# Altium integrated library NSC Legacy.IntLib: 687 symbols (part 13 of 17)
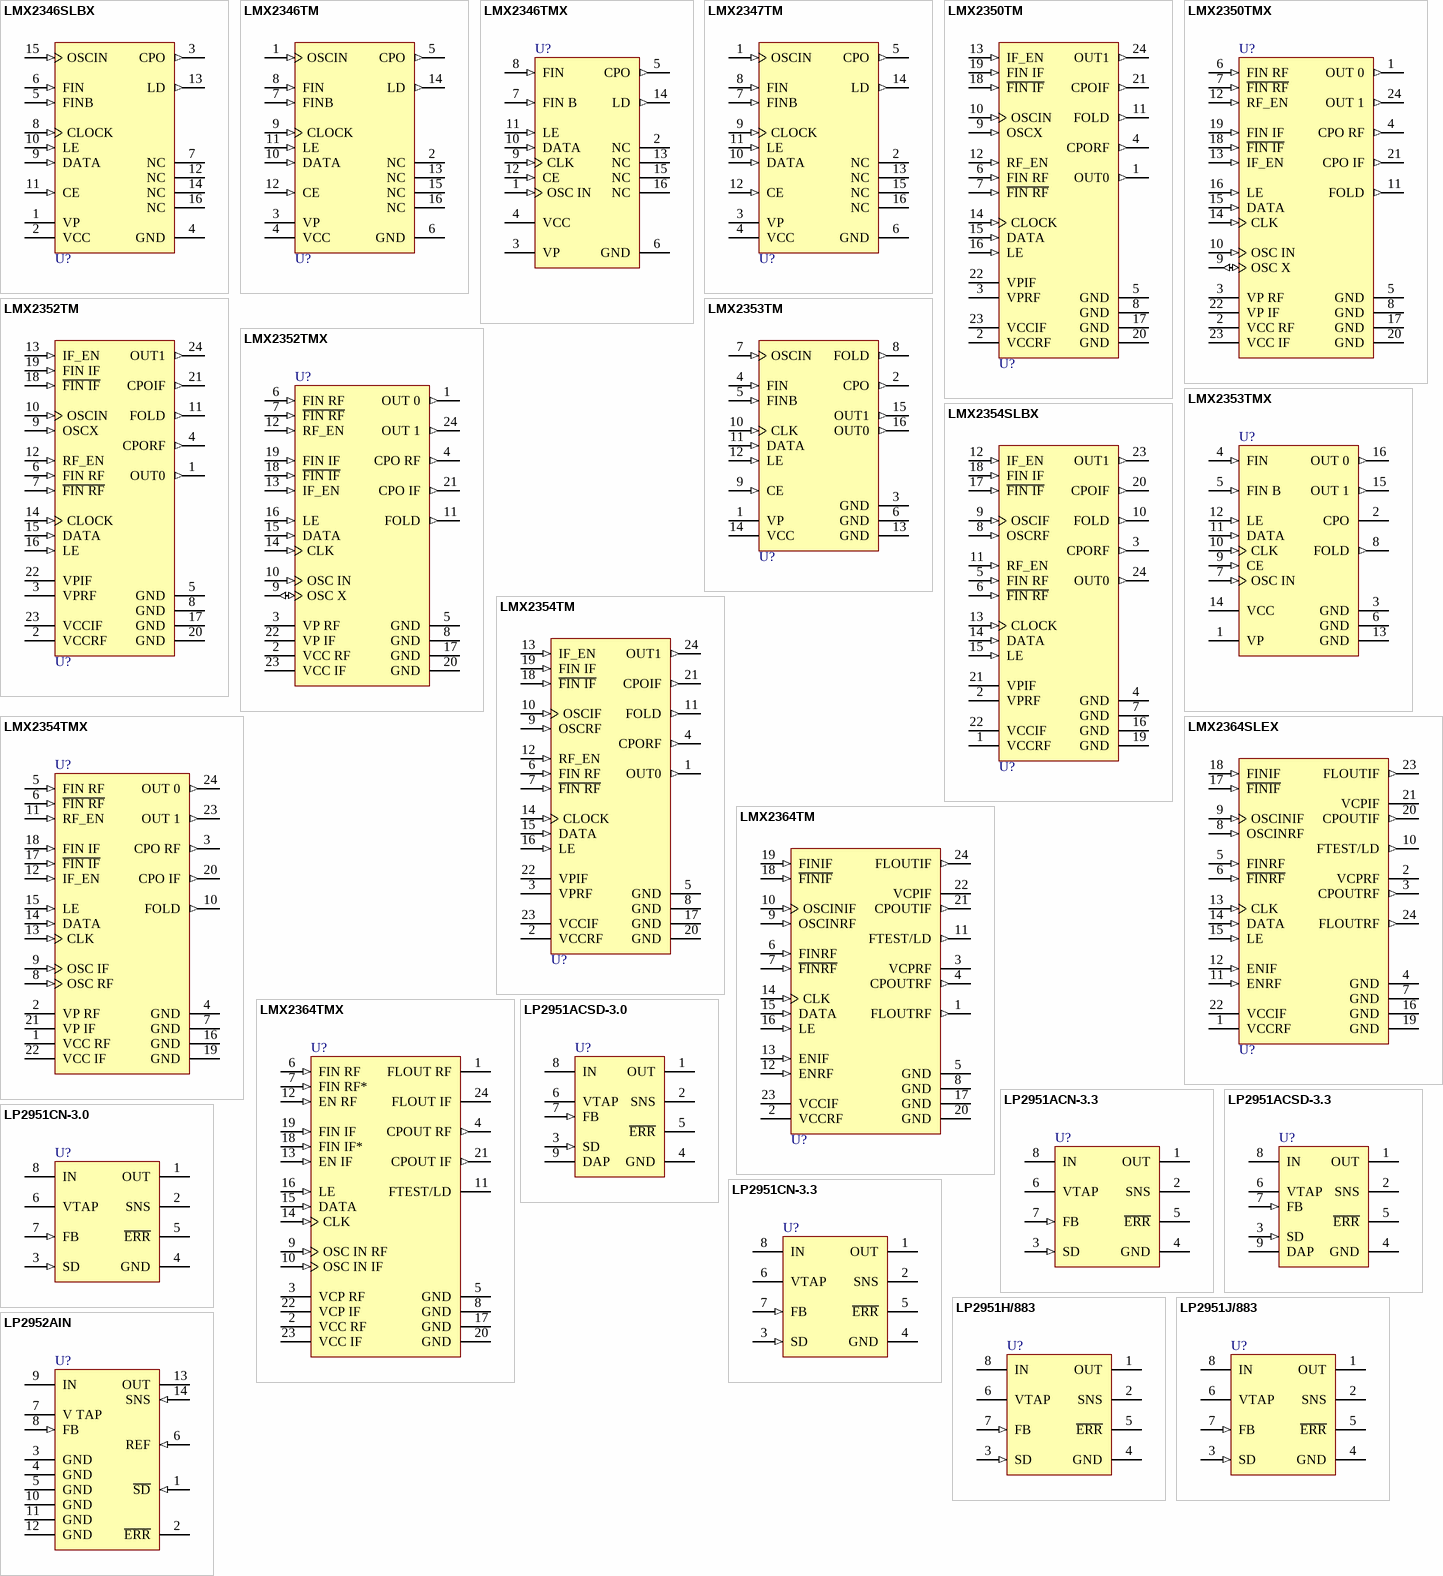
[diagram p36: symbols LMX2346SLBX to LP2952AIN]

## LMX2346TMX
designator U?
2.0 GHz PLLatinum Frequency Synthesizer for RF Personal Communications, 16-pin TSSOP; PartNumber: LMX2346TMX; Manufacturer: National Semiconductor; PackageTopMarking: NSUZXYTT*LMX2346*TMDD; CompType: Analog IC; Published: 4-Dec-2008; DatasheetVersion: Jun-2004; PackageVersion: revD, Jun-2003; PackageReference: MTC16; Publisher: Altium Limited; PackageDescription: Molded TSSOP, Jedec, 5 x 4.4 x 0.9mm Body, 16 Lead, 0.65mm Pitch; PinCount: 16; Code_JEDEC: MO-153-AB; ComponentLink1Description: LMX2346 Datasheet; ComponentLink1URL: http://www.national.com/ds/LM/LMX2346.pdf; ComponentLink2Description: LMX2346 Web Page; ComponentLink2URL: http://www.national.com/pf/LM/LMX2346.html; ComponentLink3Description: MTC16 package page; ComponentLink3URL: http://www.national.com/packaging/folders/mtc16.html
footprint MTC16_N (TSOP, 16-Leads, Body 5x4.4mm, Pitch 0.65mm, IPC Medium Density)
footprint MTC16_L (TSOP, 16-Leads, Body 5x4.4mm, Pitch 0.65mm, IPC High Density)
footprint MTC16_M (TSOP, 16-Leads, Body 5x4.4mm, Pitch 0.65mm, IPC Low Density)
pins: 1 OSC IN (in), 2 NC, 3 VP (power), 4 VCC (power), 5 CPO (out), 6 GND (power), 7 FIN B (in), 8 FIN (in), 9 CLK (in), 10 DATA (in), 11 LE (in), 12 CE (in), 13 NC, 14 LD (out), 15 NC, 16 NC

## LMX2347TM
designator U?
2.5 GHz PLLatinum Frequency Synthesizer for RF Personal Communications, 16-pin TSSOP; PartNumber: LMX2347TM; Manufacturer: National Semiconductor; PackageTopMarking: NSUZXYTT*LMX2347*TMDD; PowerWise: N; CompType: Interface IC; Published: 4-Dec-2008; DatasheetVersion: Jun-2004; PackageVersion: revD, Jun-2003; PackageReference: MTC16; Publisher: Altium Limited; PackageDescription: Molded TSSOP, Jedec, 5 x 4.4 x 0.9mm Body, 16 Lead, 0.65mm Pitch; RoHS: Y; PinCount: 16; Code_JEDEC: MO-153-AB; ComponentLink1Description: LMX2347 Datasheet; ComponentLink1URL: http://www.national.com/ds/LM/LMX2347.pdf; ComponentLink2Description: LMX2347 Web Page; ComponentLink2URL: http://www.national.com/pf/LM/LMX2347.html; ComponentLink3Description: MTC16 Package Page; ComponentLink3URL: http://www.national.com/packaging/folders/mtc16.html
footprint MTC16_N (TSOP, 16-Leads, Body 5x4.4mm, Pitch 0.65mm, IPC Medium Density)
footprint MTC16_L (TSOP, 16-Leads, Body 5x4.4mm, Pitch 0.65mm, IPC High Density)
footprint MTC16_M (TSOP, 16-Leads, Body 5x4.4mm, Pitch 0.65mm, IPC Low Density)
pins: 1 OSCIN (in), 2 NC, 3 VP (power), 4 VCC (power), 5 CPO (out), 6 GND (power), 7 FINB (in), 8 FIN (in), 9 CLOCK (in), 10 DATA (in), 11 LE (in), 12 CE (in), 13 NC, 14 LD (out), 15 NC, 16 NC

## LMX2350TM
designator U?
2.5 GHz/550 MHz PLLatinum Fractional N RF / Integer N IF Dual Low Power Frequency Synthesizer, 24-pin TSSOP; PartNumber: LMX2350TM; Manufacturer: National Semiconductor; PackageTopMarking: NSUZXYTT*LMX2350*TMDD; CompType: Interface IC; Published: 4-Dec-2008; DatasheetVersion: Mar-2001; PackageVersion: revE, Mar-2003; PackageReference: MTC24; Publisher: Altium Limited; PackageDescription: Molded TSSOP, Jedec, 7.8 x 4.4 x 0.9mm Body, 24 Lead, 0.65mm Pitch; RoHS: Y; PinCount: 24; PowerWise: N; Code_JEDEC: MO-153-AD; ComponentLink1Description: LMX2350 Datasheet; ComponentLink1URL: http://www.national.com/ds/LM/LMX2350.pdf; ComponentLink2Description: LMX2350 Web Page; ComponentLink2URL: http://www.national.com/pf/LM/LMX2350.html; ComponentLink3Description: MTC24 Package Page; ComponentLink3URL: http://www.national.com/packaging/folders/mtc24.html
footprint MTC24_N (TSOP, 24-Leads, Body 7.8x4.4mm, Pitch 0.65mm, IPC Medium Density)
footprint MTC24_L (TSOP, 24-Leads, Body 7.8x4.4mm, Pitch 0.65mm, IPC High Density)
footprint MTC24_M (TSOP, 24-Leads, Body 7.8x4.4mm, Pitch 0.65mm, IPC Low Density)
pins: 1 OUT0 (out), 2 VCCRF (power), 3 VPRF (power), 4 CPORF (out), 5 GND (power), 6 FIN RF (in), 7 ~{FIN RF} (in), 8 GND (power), 9 OSCX (in), 10 OSCIN (in), 11 FOLD (out), 12 RF_EN (in), 13 IF_EN (in), 14 CLOCK (in), 15 DATA (in), 16 LE (in), 17 GND (power), 18 ~{FIN IF} (in), 19 FIN IF (in), 20 GND (power), 21 CPOIF (out), 22 VPIF (power), 23 VCCIF (power), 24 OUT1 (out)

## LMX2350TMX
designator U?
2.5 GHz/550 MHz PLLatinum Fractional N RF / Integer N IF Dual Low Power Frequency Synthesizer, 24-pin TSSOP; PartNumber: LMX2350TMX; Manufacturer: National Semiconductor; PackageTopMarking: NSUZXYTT*LMX2350*TMDD; CompType: Analog IC; Published: 4-Dec-2008; DatasheetVersion: Mar-2001; PackageVersion: revE, Mar-2003; PackageReference: MTC24; Publisher: Altium Limited; PackageDescription: Molded TSSOP, Jedec, 7.8 x 4.4 x 0.9mm Body, 24 Lead, 0.65mm Pitch; PinCount: 24; Code_JEDEC: MO-153-AD; ComponentLink1Description: LMX2350 Datasheet; ComponentLink1URL: http://www.national.com/ds/LM/LMX2350.pdf; ComponentLink2Description: LMX2350 Web Page; ComponentLink2URL: http://www.national.com/pf/LM/LMX2350.html; ComponentLink3Description: MTC24 package page; ComponentLink3URL: http://www.national.com/packaging/folders/mtc24.html
footprint MTC24_N (TSOP, 24-Leads, Body 7.8x4.4mm, Pitch 0.65mm, IPC Medium Density)
footprint MTC24_L (TSOP, 24-Leads, Body 7.8x4.4mm, Pitch 0.65mm, IPC High Density)
footprint MTC24_M (TSOP, 24-Leads, Body 7.8x4.4mm, Pitch 0.65mm, IPC Low Density)
pins: 1 OUT 0 (out), 2 VCC RF (power), 3 VP RF (power), 4 CPO RF (out), 5 GND (power), 6 FIN RF (in), 7 ~{FIN RF} (in), 8 GND (power), 9 OSC X (io), 10 OSC IN (in), 11 FOLD (out), 12 RF_EN (in), 13 IF_EN (in), 14 CLK (in), 15 DATA (in), 16 LE (in), 17 GND (power), 18 ~{FIN IF} (in), 19 FIN IF (in), 20 GND (power), 21 CPO IF (out), 22 VP IF (power), 23 VCC IF (power), 24 OUT 1 (out)

## LMX2352TM
designator U?
1.2 GHz/550 MHz PLLatinum Fractional N RF / Integer N IF Dual Low Power Frequency Synthesizer, 24-pin TSSOP; PartNumber: LMX2352TM; Manufacturer: National Semiconductor; PackageTopMarking: NSUZXYTT*LMX2352*TMDD; CompType: Interface IC; Published: 4-Dec-2008; DatasheetVersion: Mar-2001; PackageVersion: revE, Mar-2003; PackageReference: MTC24; Publisher: Altium Limited; PackageDescription: Molded TSSOP, Jedec, 7.8 x 4.4 x 0.9mm Body, 24 Lead, 0.65mm Pitch; RoHS: O; PinCount: 24; PowerWise: N; Code_JEDEC: MO-153-AD; ComponentLink1Description: LMX2352 Datasheet; ComponentLink1URL: http://www.national.com/ds/LM/LMX2352.pdf; ComponentLink2Description: LMX2352 Web Page; ComponentLink2URL: http://www.national.com/pf/LM/LMX2352.html; ComponentLink3Description: MTC24 Package Page; ComponentLink3URL: http://www.national.com/packaging/folders/mtc24.html
footprint MTC24_N (TSOP, 24-Leads, Body 7.8x4.4mm, Pitch 0.65mm, IPC Medium Density)
footprint MTC24_L (TSOP, 24-Leads, Body 7.8x4.4mm, Pitch 0.65mm, IPC High Density)
footprint MTC24_M (TSOP, 24-Leads, Body 7.8x4.4mm, Pitch 0.65mm, IPC Low Density)
pins: 1 OUT0 (out), 2 VCCRF (power), 3 VPRF (power), 4 CPORF (out), 5 GND (power), 6 FIN RF (in), 7 ~{FIN RF} (in), 8 GND (power), 9 OSCX (in), 10 OSCIN (in), 11 FOLD (out), 12 RF_EN (in), 13 IF_EN (in), 14 CLOCK (in), 15 DATA (in), 16 LE (in), 17 GND (power), 18 ~{FIN IF} (in), 19 FIN IF (in), 20 GND (power), 21 CPOIF (out), 22 VPIF (power), 23 VCCIF (power), 24 OUT1 (out)

## LMX2352TMX
designator U?
1.2 GHz/550 MHz PLLatinum Fractional N RF / Integer N IF Dual Low Power Frequency Synthesizer, 24-pin TSSOP; PartNumber: LMX2352TMX; Manufacturer: National Semiconductor; PackageTopMarking: NSUZXYTT*LMX2352*TMDD; CompType: Analog IC; Published: 4-Dec-2008; DatasheetVersion: Mar-2001; PackageVersion: revE, Mar-2003; PackageReference: MTC24; Publisher: Altium Limited; PackageDescription: Molded TSSOP, Jedec, 7.8 x 4.4 x 0.9mm Body, 24 Lead, 0.65mm Pitch; PinCount: 24; Code_JEDEC: MO-153-AD; ComponentLink1Description: LMX2352 Datasheet; ComponentLink1URL: http://www.national.com/ds/LM/LMX2352.pdf; ComponentLink2Description: LMX2352 Web Page; ComponentLink2URL: http://www.national.com/pf/LM/LMX2352.html; ComponentLink3Description: MTC24 package page; ComponentLink3URL: http://www.national.com/packaging/folders/mtc24.html
footprint MTC24_N (TSOP, 24-Leads, Body 7.8x4.4mm, Pitch 0.65mm, IPC Medium Density)
footprint MTC24_L (TSOP, 24-Leads, Body 7.8x4.4mm, Pitch 0.65mm, IPC High Density)
footprint MTC24_M (TSOP, 24-Leads, Body 7.8x4.4mm, Pitch 0.65mm, IPC Low Density)
pins: 1 OUT 0 (out), 2 VCC RF (power), 3 VP RF (power), 4 CPO RF (out), 5 GND (power), 6 FIN RF (in), 7 ~{FIN RF} (in), 8 GND (power), 9 OSC X (io), 10 OSC IN (in), 11 FOLD (out), 12 RF_EN (in), 13 IF_EN (in), 14 CLK (in), 15 DATA (in), 16 LE (in), 17 GND (power), 18 ~{FIN IF} (in), 19 FIN IF (in), 20 GND (power), 21 CPO IF (out), 22 VP IF (power), 23 VCC IF (power), 24 OUT 1 (out)

## LMX2353TM
designator U?
PLLatinum Fractional N Single 2.5 GHz Frequency Synthesizer, 16-pin TSSOP; PartNumber: LMX2353TM; Manufacturer: National Semiconductor; PackageTopMarking: NSUZXYTT*LMX2353*TMDD; CompType: Interface IC; Published: 4-Dec-2008; DatasheetVersion: Jan-2001; PackageVersion: revD, Jun-2003; PackageReference: MTC16; Publisher: Altium Limited; PackageDescription: Molded TSSOP, Jedec, 5 x 4.4 x 0.9mm Body, 16 Lead, 0.65mm Pitch; Supplier 1: Farnell; Supplier Part Number 1: 4125253; RoHS: Y; PinCount: 16; Code_JEDEC: MO-153-AB; ComponentLink1Description: LMX2353 Datasheet; ComponentLink1URL: http://www.national.com/ds/LM/LMX2353.pdf; ComponentLink2Description: LMX2353 Web Page; ComponentLink2URL: http://www.national.com/pf/LM/LMX2353.html; ComponentLink3Description: MTC16 Package Page; ComponentLink3URL: http://www.national.com/packaging/folders/mtc16.html
footprint MTC16_N (TSOP, 16-Leads, Body 5x4.4mm, Pitch 0.65mm, IPC Medium Density)
footprint MTC16_L (TSOP, 16-Leads, Body 5x4.4mm, Pitch 0.65mm, IPC High Density)
footprint MTC16_M (TSOP, 16-Leads, Body 5x4.4mm, Pitch 0.65mm, IPC Low Density)
pins: 1 VP (power), 2 CPO (out), 3 GND (power), 4 FIN (in), 5 FINB (in), 6 GND (power), 7 OSCIN (in), 8 FOLD (out), 9 CE (in), 10 CLK (in), 11 DATA (in), 12 LE (in), 13 GND (power), 14 VCC (power), 15 OUT1 (out), 16 OUT0 (out)

## LMX2353TMX
designator U?
PLLatinum Fractional N Single 2.5 GHz Low Power Frequency Synthesizer, 16-pin TSSOP; PartNumber: LMX2353TMX; Manufacturer: National Semiconductor; PackageTopMarking: NSUZXYTT*LMX2353*TMDD; CompType: Analog IC; Published: 4-Dec-2008; DatasheetVersion: Jan-2001; PackageVersion: revD, Jun-2003; PackageReference: MTC16; Publisher: Altium Limited; PackageDescription: Molded TSSOP, Jedec, 5 x 4.4 x 0.9mm Body, 16 Lead, 0.65mm Pitch; PinCount: 16; Code_JEDEC: MO-153-AB; ComponentLink1Description: LMX2353 Datasheet; ComponentLink1URL: http://www.national.com/ds/LM/LMX2353.pdf; ComponentLink2Description: LMX2353 Web Page; ComponentLink2URL: http://www.national.com/pf/LM/LMX2353.html; ComponentLink3Description: MTC16 package page; ComponentLink3URL: http://www.national.com/packaging/folders/mtc16.html
footprint MTC16_N (TSOP, 16-Leads, Body 5x4.4mm, Pitch 0.65mm, IPC Medium Density)
footprint MTC16_L (TSOP, 16-Leads, Body 5x4.4mm, Pitch 0.65mm, IPC High Density)
footprint MTC16_M (TSOP, 16-Leads, Body 5x4.4mm, Pitch 0.65mm, IPC Low Density)
pins: 1 VP (power), 2 CPO (hiz), 3 GND (power), 4 FIN (in), 5 FIN B (in), 6 GND (power), 7 OSC IN (in), 8 FOLD (out), 9 CE (in), 10 CLK (in), 11 DATA (in), 12 LE (in), 13 GND (power), 14 VCC (power), 15 OUT 1 (out), 16 OUT 0 (out)

## LMX2354SLBX
designator U?
2.5 GHz/550 MHz PLLatinum Fractional N RF / Integer N IF Dual Low Power Frequency Synthesizer, 24-pin CSP; PartNumber: LMX2354SLBX; Manufacturer: National Semiconductor; PackageTopMarking: NSUZXYTT*LMX2354*SLBDD; CompType: Interface IC; Published: 4-Dec-2008; DatasheetVersion: Aug-2001; PackageVersion: revC, Oct-1998; PackageReference: SLB24A; Publisher: Altium Limited; PackageDescription: CSP, Plastic, Laminated, 3.5 x 4.5 x 1.0mm Body, 24 Lead, 0.5mm Pitch; RoHS: O; PinCount: 24; PowerWise: N; ComponentLink1Description: LMX2354 Datasheet; ComponentLink1URL: http://www.national.com/ds/LM/LMX2354.pdf; ComponentLink2Description: LMX2354 Web Page; ComponentLink2URL: http://www.national.com/pf/LM/LMX2354.html; ComponentLink3Description: SLB24A Package Page; ComponentLink3URL: http://www.national.com/packaging/folders/slb24a.html
footprint SLB24A (PQFN, 24-Leads (9x3 pads), Body 3.5x4.5mm, Pitch 0.5mm, NSC Recommended)
pins: 1 VCCRF (power), 2 VPRF (power), 3 CPORF (out), 4 GND (power), 5 FIN RF (in), 6 ~{FIN RF} (in), 7 GND (power), 8 OSCRF (in), 9 OSCIF (in), 10 FOLD (out), 11 RF_EN (in), 12 IF_EN (in), 13 CLOCK (in), 14 DATA (in), 15 LE (in), 16 GND (power), 17 ~{FIN IF} (in), 18 FIN IF (in), 19 GND (power), 20 CPOIF (out), 21 VPIF (power), 22 VCCIF (power), 23 OUT1 (out), 24 OUT0 (out)

## LMX2354TM
designator U?
2.5 GHz/550 MHz PLLatinum Fractional N RF / Integer N IF Dual Low Power Frequency Synthesizer, 24-pin TSSOP; PartNumber: LMX2354TM; Manufacturer: National Semiconductor; PackageTopMarking: NSUZXYTT*LMX2354*TMDD; CompType: Interface IC; Published: 4-Dec-2008; DatasheetVersion: Aug-2001; PackageVersion: revE, Mar-2003; PackageReference: MTC24; Publisher: Altium Limited; PackageDescription: Molded TSSOP, Jedec, 7.8 x 4.4 x 0.9mm Body, 24 Lead, 0.65mm Pitch; Supplier 1: Farnell; Supplier Part Number 1: 9779175; RoHS: O; PinCount: 24; PowerWise: N; Code_JEDEC: MO-153-AD; ComponentLink1Description: LMX2354 Datasheet; ComponentLink1URL: http://www.national.com/ds/LM/LMX2354.pdf; ComponentLink2Description: LMX2354 Web Page; ComponentLink2URL: http://www.national.com/pf/LM/LMX2354.html; ComponentLink3Description: MTC24 Package Page; ComponentLink3URL: http://www.national.com/packaging/folders/mtc24.html
footprint MTC24_N (TSOP, 24-Leads, Body 7.8x4.4mm, Pitch 0.65mm, IPC Medium Density)
footprint MTC24_L (TSOP, 24-Leads, Body 7.8x4.4mm, Pitch 0.65mm, IPC High Density)
footprint MTC24_M (TSOP, 24-Leads, Body 7.8x4.4mm, Pitch 0.65mm, IPC Low Density)
pins: 1 OUT0 (out), 2 VCCRF (power), 3 VPRF (power), 4 CPORF (out), 5 GND (power), 6 FIN RF (in), 7 ~{FIN RF} (in), 8 GND (power), 9 OSCRF (in), 10 OSCIF (in), 11 FOLD (out), 12 RF_EN (in), 13 IF_EN (in), 14 CLOCK (in), 15 DATA (in), 16 LE (in), 17 GND (power), 18 ~{FIN IF} (in), 19 FIN IF (in), 20 GND (power), 21 CPOIF (out), 22 VPIF (power), 23 VCCIF (power), 24 OUT1 (out)

## LMX2354TMX
designator U?
2.5 GHz/550 MHz PLLatinum Fractional N RF/ Integer N IF Dual Low Power Frequency Synthesizer, 24-pin TSSOP; PartNumber: LMX2354TMX; Manufacturer: National Semiconductor; PackageTopMarking: NSUZXYTT*LMX2354*TMDD; CompType: Analog IC; Published: 4-Dec-2008; DatasheetVersion: Aug-2001; PackageVersion: revE, Mar-2003; PackageReference: MTC24; Publisher: Altium Limited; PackageDescription: Molded TSSOP, Jedec, 7.8 x 4.4 x 0.9mm Body, 24 Lead, 0.65mm Pitch; PinCount: 24; Code_JEDEC: MO-153-AD; ComponentLink1Description: LMX2354 Datasheet; ComponentLink1URL: http://www.national.com/ds/LM/LMX2354.pdf; ComponentLink2Description: LMX2354 Web Page; ComponentLink2URL: http://www.national.com/pf/LM/LMX2354.html; ComponentLink3Description: MTC24 package page; ComponentLink3URL: http://www.national.com/packaging/folders/mtc24.html
footprint MTC24_N (TSOP, 24-Leads, Body 7.8x4.4mm, Pitch 0.65mm, IPC Medium Density)
footprint MTC24_L (TSOP, 24-Leads, Body 7.8x4.4mm, Pitch 0.65mm, IPC High Density)
footprint MTC24_M (TSOP, 24-Leads, Body 7.8x4.4mm, Pitch 0.65mm, IPC Low Density)
pins: 1 VCC RF (power), 2 VP RF (power), 3 CPO RF (out), 4 GND (power), 5 FIN RF (in), 6 ~{FIN RF} (in), 7 GND (power), 8 OSC RF (in), 9 OSC IF (in), 10 FOLD (out), 11 RF_EN (in), 12 IF_EN (in), 13 CLK (in), 14 DATA (in), 15 LE (in), 16 GND (power), 17 ~{FIN IF} (in), 18 FIN IF (in), 19 GND (power), 20 CPO IF (out), 21 VP IF (power), 22 VCC IF (power), 23 OUT 1 (out), 24 OUT 0 (out)

## LMX2364SLEX
designator U?
2.6 GHz Fractional RF Frequency Synthesizer with 850 MHz Integer-N IF Frequency Synthesizer, 24-pin Laminate UCSP; PartNumber: LMX2364SLEX; Manufacturer: National Semiconductor; PackageTopMarking: NSXYTT*X2364*SLE; PowerWise: N; CompType: Interface IC; Published: 4-Dec-2008; DatasheetVersion: Jul-2003; PackageVersion: revA, Jun-2001; PackageReference: SLE24A; Publisher: Altium Limited; PackageDescription: Ultra TCSP, Plastic, Laminated, 3.5 x 4.5 x 0.6mm Body, 24 Lead, .5mm Pitch; RoHS: Y; PinCount: 24; ComponentLink1Description: LMX2364 Datasheet; ComponentLink1URL: http://www.national.com/ds/LM/LMX2364.pdf; ComponentLink2Description: LMX2364 Web Page; ComponentLink2URL: http://www.national.com/pf/LM/LMX2364.html; ComponentLink3Description: SLE24A Package Page; ComponentLink3URL: http://www.national.com/packaging/folders/sle24a.html
footprint SLE24A (PQFN, 24-Leads (9x3 pads), Body 3.5x4.5mm, Pitch 0.5mm, NSC Recommended)
pins: 1 VCCRF (power), 2 VCPRF (power), 3 CPOUTRF (out), 4 GND (power), 5 FINRF (in), 6 ~{FINRF} (in), 7 GND (power), 8 OSCINRF (in), 9 OSCINIF (in), 10 FTEST/LD (out), 11 ENRF (in), 12 ENIF (in), 13 CLK (in), 14 DATA (in), 15 LE (in), 16 GND (power), 17 ~{FINIF} (in), 18 FINIF (in), 19 GND (power), 20 CPOUTIF (out), 21 VCPIF (power), 22 VCCIF (power), 23 FLOUTIF (out), 24 FLOUTRF (out)

## LMX2364TM
designator U?
2.6 GHz Fractional RF Frequency Synthesizer with 850 MHz Integer-N IF Frequency Synthesizer, 24-pin TSSOP; PartNumber: LMX2364TM; Manufacturer: National Semiconductor; PackageTopMarking: NSUZXYTT*LMX2364TM; PowerWise: N; CompType: Interface IC; Published: 4-Dec-2008; DatasheetVersion: Jul-2003; PackageVersion: revE, Mar-2003; PackageReference: MTC24; Publisher: Altium Limited; PackageDescription: Molded TSSOP, Jedec, 7.8 x 4.4 x 0.9mm Body, 24 Lead, 0.65mm Pitch; RoHS: Y; PinCount: 24; Code_JEDEC: MO-153-AD; ComponentLink1Description: LMX2364 Datasheet; ComponentLink1URL: http://www.national.com/ds/LM/LMX2364.pdf; ComponentLink2Description: LMX2364 Web Page; ComponentLink2URL: http://www.national.com/pf/LM/LMX2364.html; ComponentLink3Description: MTC24 Package Page; ComponentLink3URL: http://www.national.com/packaging/folders/mtc24.html
footprint MTC24_N (TSOP, 24-Leads, Body 7.8x4.4mm, Pitch 0.65mm, IPC Medium Density)
footprint MTC24_L (TSOP, 24-Leads, Body 7.8x4.4mm, Pitch 0.65mm, IPC High Density)
footprint MTC24_M (TSOP, 24-Leads, Body 7.8x4.4mm, Pitch 0.65mm, IPC Low Density)
pins: 1 FLOUTRF (out), 2 VCCRF (power), 3 VCPRF (power), 4 CPOUTRF (out), 5 GND (power), 6 FINRF (in), 7 ~{FINRF} (in), 8 GND (power), 9 OSCINRF (in), 10 OSCINIF (in), 11 FTEST/LD (out), 12 ENRF (in), 13 ENIF (in), 14 CLK (in), 15 DATA (in), 16 LE (in), 17 GND (power), 18 ~{FINIF} (in), 19 FINIF (in), 20 GND (power), 21 CPOUTIF (out), 22 VCPIF (power), 23 VCCIF (power), 24 FLOUTIF (out)

## LMX2364TMX
designator U?
2.6 GHz PLLatinum Fractional RF Frequency Synthesizer with 850 MHz Integer IF Frequency Synthesizer, 24-pin TSSOP; PartNumber: LMX2364TMX; Manufacturer: National Semiconductor; PackageTopMarking: NSUZXYTT*LMX2364TM; CompType: Analog IC; Published: 4-Dec-2008; DatasheetVersion: Jul-2003; PackageVersion: revE, Mar-2003; PackageReference: MTC24; Publisher: Altium Limited; PackageDescription: Molded TSSOP, Jedec, 7.8 x 4.4 x 0.9mm Body, 24 Lead, 0.65mm Pitch; PinCount: 24; Code_JEDEC: MO-153-AD; ComponentLink1Description: LMX2364 Datasheet; ComponentLink1URL: http://www.national.com/ds/LM/LMX2364.pdf; ComponentLink2Description: LMX2364 Web Page; ComponentLink2URL: http://www.national.com/pf/LM/LMX2364.html; ComponentLink3Description: MTC24 package page; ComponentLink3URL: http://www.national.com/packaging/folders/mtc24.html
footprint MTC24_N (TSOP, 24-Leads, Body 7.8x4.4mm, Pitch 0.65mm, IPC Medium Density)
footprint MTC24_L (TSOP, 24-Leads, Body 7.8x4.4mm, Pitch 0.65mm, IPC High Density)
footprint MTC24_M (TSOP, 24-Leads, Body 7.8x4.4mm, Pitch 0.65mm, IPC Low Density)
pins: 1 FLOUT RF (hiz), 2 VCC RF (power), 3 VCP RF (power), 4 CPOUT RF (out), 5 GND (power), 6 FIN RF (in), 7 FIN RF* (in), 8 GND (power), 9 OSC IN RF (in), 10 OSC IN IF (in), 11 FTEST/LD (hiz), 12 EN RF (in), 13 EN IF (in), 14 CLK (in), 15 DATA (in), 16 LE (in), 17 GND (power), 18 FIN IF* (in), 19 FIN IF (in), 20 GND (power), 21 CPOUT IF (out), 22 VCP IF (power), 23 VCC IF (power), 24 FLOUT IF (hiz)

## LP2951ACN-3.3
designator U?
Series of Adjustable Micropower Voltage Regulators, 8-pin MDIP; PartNumber: LP2951ACN-3.3; Manufacturer: National Semiconductor; PackageTopMarking: NSUZXYTT*LP2951*ACN-3.3; CompType: LDO IC; Published: 4-Dec-2008; LatestRevisionDate: 07-Sep-2009; LatestRevisionNote: Bar removed from pin 3; DatasheetVersion: Jun-2009; PackageVersion: revG, May-2006; PackageReference: N08E; Publisher: Altium Limited; PackageDescription: MDIP, .365 x .250 x .130in, 8 Lead, .100in Pitch; RoHS: Y; PinCount: 8; Code_JEDEC: MS-001-BA; ComponentLink1Description: LP2951 Datasheet; ComponentLink1URL: http://www.national.com/ds/LP/LP2951.pdf; ComponentLink2Description: LP2951 Web Page; ComponentLink2URL: http://www.national.com/pf/LP/LP2951.html; ComponentLink3Description: N08E Package Page; ComponentLink3URL: http://www.national.com/packaging/folders/n08e.html
footprint N08E (DIP, 8-Leads, Row Spacing 7.62mm, Pitch 2.54mm, Body 9.91x6.35mm)
pins: 1 OUT (power), 2 SNS, 3 SD (in), 4 GND (power), 5 ~{ERR} (oc), 6 VTAP, 7 FB (in), 8 IN (power)

## LP2951ACSD-3.0
designator U?
Series of Adjustable Micropower Voltage Regulators, 8-pin LLP; PartNumber: LP2951ACSD-3.0; Manufacturer: National Semiconductor; PackageTopMarking: NS*UZXYTT*51AC30; CompType: LDO IC; Published: 4-Dec-2008; LatestRevisionDate: 07-Sep-2009; LatestRevisionNote: Bar removed from pin 3; DatasheetVersion: Jun-2009; PackageVersion: revA, Jun-2003; PackageReference: SDC08A; Publisher: Altium Limited; PackageDescription: LLP, Plastic, Dual, 4 x 4 x 0.8mm Body, 8 Lead, 0.8mm Pitch, No Pullback; RoHS: Y; PinCount: 8; ComponentLink1Description: LP2951 Datasheet; ComponentLink1URL: http://www.national.com/ds/LP/LP2951.pdf; ComponentLink2Description: LP2951 Web Page; ComponentLink2URL: http://www.national.com/pf/LP/LP2951.html; ComponentLink3Description: SDC08A Package Page; ComponentLink3URL: http://www.national.com/packaging/folders/sdc08a.html
footprint SDC08A (SON, 8-Leads, Body 4x4mm, Pitch 0.8mm, NSC Recommended)
pins: 1 OUT (power), 2 SNS, 3 SD (in), 4 GND (power), 5 ~{ERR} (oc), 6 VTAP, 7 FB (in), 8 IN (power), 9 DAP (power)

## LP2951ACSD-3.3
designator U?
Series of Adjustable Micropower Voltage Regulators, 8-pin LLP; PartNumber: LP2951ACSD-3.3; Manufacturer: National Semiconductor; PackageTopMarking: NS*UZXYTT*51AC33; CompType: LDO IC; Published: 4-Dec-2008; LatestRevisionDate: 07-Sep-2009; LatestRevisionNote: Bar removed from pin 3; DatasheetVersion: Jun-2009; PackageVersion: revA, Jun-2003; PackageReference: SDC08A; Publisher: Altium Limited; PackageDescription: LLP, Plastic, Dual, 4 x 4 x 0.8mm Body, 8 Lead, 0.8mm Pitch, No Pullback; Supplier 1: Farnell; Supplier Part Number 1: 1008041; RoHS: Y; PinCount: 8; ComponentLink1Description: LP2951 Datasheet; ComponentLink1URL: http://www.national.com/ds/LP/LP2951.pdf; ComponentLink2Description: LP2951 Web Page; ComponentLink2URL: http://www.national.com/pf/LP/LP2951.html; ComponentLink3Description: SDC08A Package Page; ComponentLink3URL: http://www.national.com/packaging/folders/sdc08a.html
footprint SDC08A (SON, 8-Leads, Body 4x4mm, Pitch 0.8mm, NSC Recommended)
pins: 1 OUT (power), 2 SNS, 3 SD (in), 4 GND (power), 5 ~{ERR} (oc), 6 VTAP, 7 FB (in), 8 IN (power), 9 DAP (power)

## LP2951CN-3.0
designator U?
Series of Adjustable Micropower Voltage Regulators, 8-pin MDIP; PartNumber: LP2951CN-3.0; Manufacturer: National Semiconductor; PackageTopMarking: NSUZXYTT*LP2951*CN-3.0; CompType: LDO IC; Published: 4-Dec-2008; LatestRevisionDate: 07-Sep-2009; LatestRevisionNote: Bar removed from pin 3; DatasheetVersion: Jun-2009; PackageVersion: revG, May-2006; PackageReference: N08E; Publisher: Altium Limited; PackageDescription: MDIP, .365 x .250 x .130in, 8 Lead, .100in Pitch; Supplier 1: Farnell; Supplier Part Number 1: 9493476; RoHS: Y; PinCount: 8; Code_JEDEC: MS-001-BA; ComponentLink1Description: LP2951 Datasheet; ComponentLink1URL: http://www.national.com/ds/LP/LP2951.pdf; ComponentLink2Description: LP2951 Web Page; ComponentLink2URL: http://www.national.com/pf/LP/LP2951.html; ComponentLink3Description: N08E Package Page; ComponentLink3URL: http://www.national.com/packaging/folders/n08e.html
footprint N08E (DIP, 8-Leads, Row Spacing 7.62mm, Pitch 2.54mm, Body 9.91x6.35mm)
pins: 1 OUT (power), 2 SNS, 3 SD (in), 4 GND (power), 5 ~{ERR} (oc), 6 VTAP, 7 FB (in), 8 IN (power)

## LP2951CN-3.3
designator U?
Series of Adjustable Micropower Voltage Regulators, 8-pin MDIP; PartNumber: LP2951CN-3.3; Manufacturer: National Semiconductor; PackageTopMarking: NSUZXYTT*LP2951*CN-3.3; CompType: LDO IC; Published: 4-Dec-2008; LatestRevisionDate: 07-Sep-2009; LatestRevisionNote: Bar removed from pin 3; DatasheetVersion: Jun-2009; PackageVersion: revG, May-2006; PackageReference: N08E; Publisher: Altium Limited; PackageDescription: MDIP, .365 x .250 x .130in, 8 Lead, .100in Pitch; RoHS: Y; PinCount: 8; Code_JEDEC: MS-001-BA; ComponentLink1Description: LP2951 Datasheet; ComponentLink1URL: http://www.national.com/ds/LP/LP2951.pdf; ComponentLink2Description: LP2951 Web Page; ComponentLink2URL: http://www.national.com/pf/LP/LP2951.html; ComponentLink3Description: N08E Package Page; ComponentLink3URL: http://www.national.com/packaging/folders/n08e.html
footprint N08E (DIP, 8-Leads, Row Spacing 7.62mm, Pitch 2.54mm, Body 9.91x6.35mm)
pins: 1 OUT (power), 2 SNS, 3 SD (in), 4 GND (power), 5 ~{ERR} (oc), 6 VTAP, 7 FB (in), 8 IN (power)

## LP2951H/883
designator U?
Series of Adjustable Micropower Voltage Regulators, 8-pin TO-99; PartNumber: LP2951H/883; Manufacturer: National Semiconductor; PackageTopMarking: NS ZSSXXYYA LP2951H/883 Q*5962-3870501MGA; CompType: LDO IC; Published: 4-Dec-2008; LatestRevisionDate: 07-Sep-2009; LatestRevisionNote: Pin 6 renamed VTAP; DatasheetVersion: May-2005; PackageVersion: revF, Jun-1995; PackageReference: H08C; Publisher: Altium Limited; PackageDescription: Metal Can, TO-99, 8 Lead, .200 Dia., P.C.; RoHS: N; PinCount: 8; Code_JEDEC: TO-99; ComponentLink1Description: LP2951 Datasheet; ComponentLink1URL: http://www.national.com/ds/LP/LP2951.pdf; ComponentLink2Description: LP2951 Web Page; ComponentLink2URL: http://www.national.com/pf/LP/LP2951.html; ComponentLink3Description: H08C Package Page; ComponentLink3URL: http://www.national.com/packaging/folders/h08c.html
footprint H08C (Can; 8 Leads; Pin Circle Dia. 5.08 mm; Lead Dia. 0.48 mm (max))
pins: 1 OUT (power), 2 SNS, 3 SD (in), 4 GND (power), 5 ~{ERR} (oc), 6 VTAP, 7 FB (in), 8 IN (power)

## LP2951J/883
designator U?
Series of Adjustable Micropower Voltage Regulators, 8-pin CerDIP; PartNumber: LP2951J/883; Manufacturer: National Semiconductor; PackageTopMarking: NSZSSXXYYA*LP2951J/883*Q*3870501MPA; CompType: LDO IC; Published: 4-Dec-2008; LatestRevisionDate: 07-Sep-2009; LatestRevisionNote: Bar removed from pin 3; DatasheetVersion: Jun-2009; PackageVersion: revM, Jul-2002; PackageReference: J08A; Publisher: Altium Limited; PackageDescription: Cerdip, .400 x .310in Body, 8 Lead, .300in Centers, .100in Pitch; RoHS: N; PinCount: 8; ComponentLink1Description: LP2951 Datasheet; ComponentLink1URL: http://www.national.com/ds/LP/LP2951.pdf; ComponentLink2Description: LP2951 Web Page; ComponentLink2URL: http://www.national.com/pf/LP/LP2951.html; ComponentLink3Description: J08A Package Page; ComponentLink3URL: http://www.national.com/packaging/folders/j08a.html
footprint J08A (DIP, 8-Leads, Row Spacing 7.62mm, Pitch 2.54mm, Body 9.78x6.73mm)
pins: 1 OUT (power), 2 SNS, 3 SD (in), 4 GND (power), 5 ~{ERR} (oc), 6 VTAP, 7 FB (in), 8 IN (power)

## LP2952AIN
designator U?
Adjustable Micropower Low-Dropout Voltage Regulator, 14-pin MDIP; PartNumber: LP2952AIN; Manufacturer: National Semiconductor; PackageTopMarking: NSUZXYYTTE#*LP2952AIN; CompType: LDO IC; Published: 4-Dec-2008; DatasheetVersion: Mar-2005; PackageVersion: revG, May-2006; PackageReference: N14A; Publisher: Altium Limited; PackageDescription: MDIP, .750 x .250 x.130in, 14 Lead, .100in Pitch; Supplier 1: Digi-Key; Supplier Part Number 1: LP2952AIN-ND; RoHS: O; PinCount: 14; Code_JEDEC: MS-001-AA; ComponentLink1Description: LP2952 Datasheet; ComponentLink1URL: http://www.national.com/ds/LP/LP2952.pdf; ComponentLink2Description: LP2952 Web Page; ComponentLink2URL: http://www.national.com/pf/LP/LP2952.html; ComponentLink3Description: N14A Package Page; ComponentLink3URL: http://www.national.com/packaging/folders/n14a.html
footprint N14A (DIP, 14-Leads, Row Spacing 7.62mm, Pitch 2.54mm, Body 19.56x6.35mm)
pins: 1 ~{SD} (in), 2 ~{ERR} (oc), 3 GND (power), 4 GND (power), 5 GND (power), 6 REF (in), 7 V TAP, 8 FB (in), 9 IN (power), 10 GND (power), 11 GND (power), 12 GND (power), 13 OUT (power), 14 SNS (in)

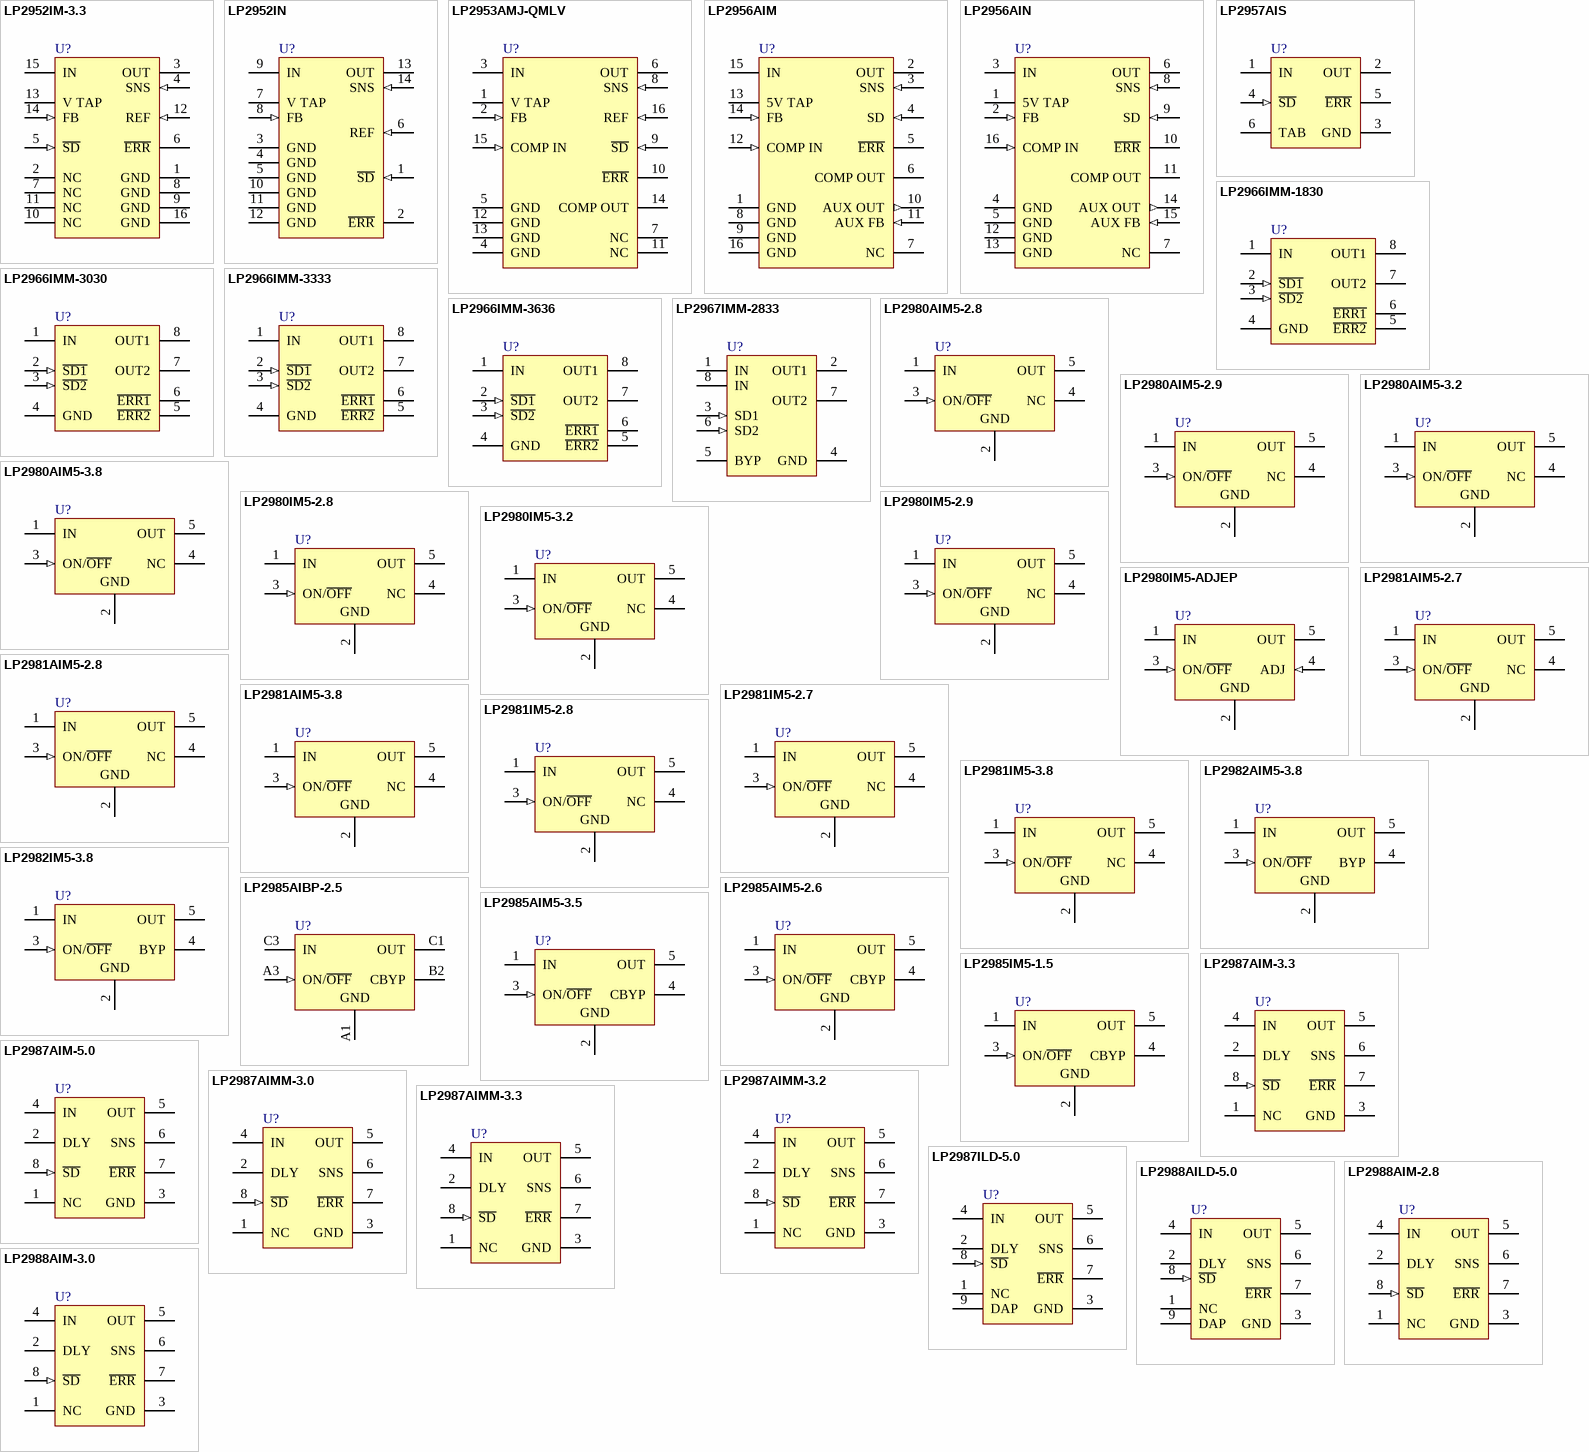
[diagram p20: symbols LP2952IM-3.3 to LP2988AIM-3.0]

## LP2952IM-3.3
designator U?
Adjustable Micropower Low-Dropout Voltage Regulator, 16-pin Narrow SOIC; PartNumber: LP2952IM-3.3; Manufacturer: National Semiconductor; PackageTopMarking: NSUZXYTT*LP2952IM*-3.3; CompType: LDO IC; Published: 4-Dec-2008; DatasheetVersion: Mar-2005; PackageVersion: revJ, Aug-1995; PackageReference: M16A; Publisher: Altium Limited; PackageDescription: Molded Package, SO, .150in Wide, 16 Lead; Supplier 1: Farnell; Supplier Part Number 1: 955899; RoHS: Y; PinCount: 16; Code_JEDEC: MS-012-AC; Code_IPC: SOIC127P600-16; ComponentLink1Description: LP2952 Datasheet; ComponentLink1URL: http://www.national.com/ds/LP/LP2952.pdf; ComponentLink2Description: LP2952 Web Page; ComponentLink2URL: http://www.national.com/pf/LP/LP2952.html; ComponentLink3Description: M16A Package Page; ComponentLink3URL: http://www.national.com/packaging/folders/m16a.html
footprint M16A_N (SOIC, 16-Leads, Body 9.9x3.9mm, Pitch 1.27mm, IPC Medium Density)
footprint M16A_L (SOIC, 16-Leads, Body 9.9x3.9mm, Pitch 1.27mm, IPC High Density)
footprint M16A_M (SOIC, 16-Leads, Body 9.9x3.9mm, Pitch 1.27mm, IPC Low Density)
pins: 1 GND (power), 2 NC, 3 OUT (power), 4 SNS (in), 5 ~{SD} (in), 6 ~{ERR} (oc), 7 NC, 8 GND (power), 9 GND (power), 10 NC, 11 NC, 12 REF (in), 13 V TAP, 14 FB (in), 15 IN (power), 16 GND (power)

## LP2952IN
designator U?
Adjustable Micropower Low-Dropout Voltage Regulator, 14-pin MDIP; PartNumber: LP2952IN; Manufacturer: National Semiconductor; PackageTopMarking: NSUZXYYTTE#*LP2952IN; CompType: LDO IC; Published: 4-Dec-2008; DatasheetVersion: Mar-2005; PackageVersion: revG, May-2006; PackageReference: N14A; Publisher: Altium Limited; PackageDescription: MDIP, .750 x .250 x.130in, 14 Lead, .100in Pitch; Supplier 1: Digi-Key; Supplier Part Number 1: LP2952IN-ND; Supplier 2: Farnell; Supplier Part Number 2: 9486011; RoHS: Y; PinCount: 14; Code_JEDEC: MS-001-AA; ComponentLink1Description: LP2952 Datasheet; ComponentLink1URL: http://www.national.com/ds/LP/LP2952.pdf; ComponentLink2Description: LP2952 Web Page; ComponentLink2URL: http://www.national.com/pf/LP/LP2952.html; ComponentLink3Description: N14A Package Page; ComponentLink3URL: http://www.national.com/packaging/folders/n14a.html
footprint N14A (DIP, 14-Leads, Row Spacing 7.62mm, Pitch 2.54mm, Body 19.56x6.35mm)
pins: 1 ~{SD} (in), 2 ~{ERR} (oc), 3 GND (power), 4 GND (power), 5 GND (power), 6 REF (in), 7 V TAP, 8 FB (in), 9 IN (power), 10 GND (power), 11 GND (power), 12 GND (power), 13 OUT (power), 14 SNS (in)

## LP2953AMJ-QMLV
designator U?
Adjustable Micropower Low-Dropout Voltage Regulator, 16-pin CerDIP; PartNumber: LP2953AMJ-QMLV; Manufacturer: National Semiconductor; PackageTopMarking: NSZSSXXYYA*LP2953AMJ-QV Q*5962-9233601VEA; PowerWise: N; CompType: LDO IC; High-Reliability: Y; Published: 4-Dec-2008; DatasheetVersion: Mar-2005; PackageVersion: revL, Sep-1993; PackageReference: J16A; Publisher: Altium Limited; PackageDescription: Cerdip (J), 16 Lead; RoHS: N; PinCount: 16; ComponentLink1Description: LP2953A Datasheet; ComponentLink1URL: http://www.national.com/ds/LP/LP2953A.pdf; ComponentLink2Description: LP2953A Web Page; ComponentLink2URL: http://www.national.com/pf/LP/LP2953A.html; ComponentLink3Description: J16A Package Page; ComponentLink3URL: http://www.national.com/packaging/folders/j16a.html
footprint J16A (DIP, 16-Leads, Row Spacing 7.62mm, Pitch 2.54mm, Body 19.56x6.73mm)
pins: 1 V TAP, 2 FB (in), 3 IN (power), 4 GND (power), 5 GND (power), 6 OUT (power), 7 NC, 8 SNS (in), 9 ~{SD} (in), 10 ~{ERR} (oc), 11 NC, 12 GND (power), 13 GND, 14 COMP OUT (oc), 15 COMP IN (in), 16 REF (in)

## LP2956AIM
designator U?
Dual Micropower Low-Dropout Voltage Regulator, 16-pin Narrow SOIC; PartNumber: LP2956AIM; Manufacturer: National Semiconductor; PackageTopMarking: NSUZXYTT*LP2956AIM; CompType: LDO IC; Published: 4-Dec-2008; DatasheetVersion: Mar-2005; PackageVersion: revJ, Aug-1995; PackageReference: M16A; Publisher: Altium Limited; PackageDescription: Molded Package, SO, .150in Wide, 16 Lead; RoHS: Y; PinCount: 16; Code_JEDEC: MS-012-AC; Code_IPC: SOIC127P600-16; ComponentLink1Description: LP2956A Datasheet; ComponentLink1URL: http://www.national.com/ds/LP/LP2956A.pdf; ComponentLink2Description: LP2956A Web Page; ComponentLink2URL: http://www.national.com/pf/LP/LP2956A.html; ComponentLink3Description: M16A Package Page; ComponentLink3URL: http://www.national.com/packaging/folders/m16a.html
footprint M16A_N (SOIC, 16-Leads, Body 9.9x3.9mm, Pitch 1.27mm, IPC Medium Density)
footprint M16A_L (SOIC, 16-Leads, Body 9.9x3.9mm, Pitch 1.27mm, IPC High Density)
footprint M16A_M (SOIC, 16-Leads, Body 9.9x3.9mm, Pitch 1.27mm, IPC Low Density)
pins: 1 GND (power), 2 OUT (power), 3 SNS (in), 4 SD (in), 5 ~{ERR} (oc), 6 COMP OUT (oc), 7 NC, 8 GND (power), 9 GND (power), 10 AUX OUT (out), 11 AUX FB (in), 12 COMP IN (in), 13 5V TAP, 14 FB (in), 15 IN (power), 16 GND (power)

## LP2956AIN
designator U?
Dual Micropower Low-Dropout Voltage Regulator, 16-pin MDIP; PartNumber: LP2956AIN; Manufacturer: National Semiconductor; PackageTopMarking: NSUZXYYTTE#*LP2956AIN; CompType: LDO IC; Published: 4-Dec-2008; DatasheetVersion: Mar-2005; PackageVersion: revB, Feb-1989; PackageReference: N16G; Publisher: Altium Limited; PackageDescription: Molded Dip (N), 16 Lead, 15 Mil Power Package; RoHS: Y; PinCount: 16; ComponentLink1Description: LP2956A Datasheet; ComponentLink1URL: http://www.national.com/ds/LP/LP2956A.pdf; ComponentLink2Description: LP2956A Web Page; ComponentLink2URL: http://www.national.com/pf/LP/LP2956A.html; ComponentLink3Description: N16G Package Page; ComponentLink3URL: http://www.national.com/packaging/folders/n16g.html
footprint N16G (DIP, 16-Leads, Row Spacing 7.62mm, Pitch 2.54mm, Body 21.76x6.35mm)
pins: 1 5V TAP, 2 FB (in), 3 IN (power), 4 GND (power), 5 GND (power), 6 OUT (power), 7 NC, 8 SNS (in), 9 SD (in), 10 ~{ERR} (oc), 11 COMP OUT (oc), 12 GND (power), 13 GND (power), 14 AUX OUT (out), 15 AUX FB (in), 16 COMP IN (in)

## LP2957AIS
designator U?
5V Low-Dropout Regulator for micro-P Application, 5-pin TO-263; PartNumber: LP2957AIS; Manufacturer: National Semiconductor; PackageTopMarking: NSUZXYTTE#*LP2957AIS; CompType: LDO IC; Published: 4-Dec-2008; DatasheetVersion: Jun-1998; PackageVersion: revD, Apr-2005; PackageReference: TS5B; Publisher: Altium Limited; PackageDescription: TO-263, Molded, .400 x .390 x .180in, 5 Lead, .067in Pitch, Surface Mount; Supplier 1: Farnell; Supplier Part Number 1: 956030; RoHS: Y; PinCount: 5; Code_JEDEC: MO-169-AB; ComponentLink1Description: LP2957A Datasheet; ComponentLink1URL: http://www.national.com/ds/LP/LP2957A.pdf; ComponentLink2Description: LP2957A Web Page; ComponentLink2URL: http://www.national.com/pf/LP/LP2957A.html; ComponentLink3Description: TS5B Package Page; ComponentLink3URL: http://www.national.com/packaging/folders/ts5b.html
footprint TS5B_N (D2-PAK, 6-Leads, Body 8.6x10.2mm, Pitch 1.7mm, Lead Span 14.1mm, IPC Medium Density)
footprint TS5B_L (D2-PAK, 6-Leads, Body 8.6x10.2mm, Pitch 1.7mm, Lead Span 14.1mm, IPC High Density)
footprint TS5B_M (D2-PAK, 6-Leads, Body 8.6x10.2mm, Pitch 1.7mm, Lead Span 14.1mm, IPC Low Density)
pins: 1 IN (power), 2 OUT (power), 3 GND (power), 4 ~{SD} (in), 5 ~{ERR} (oc), 6 TAB (power)

## LP2966IMM-1830
designator U?
Dual 150mA Ultra Low-Dropout Regulator, 8-pin Mini SOIC; PartNumber: LP2966IMM-1830; Manufacturer: National Semiconductor; PackageTopMarking: ZXTT*LEYB; CompType: LDO IC; Published: 4-Dec-2008; DatasheetVersion: Mar-2005; PackageVersion: revF, Apr-2008; PackageReference: MUA08A; Publisher: Altium Limited; PackageDescription: MINI SOIC, .118 x .118 x .034in, 8 Lead, .0256in Pitch; Supplier 1: Farnell; Supplier Part Number 1: 1312845; RoHS: Y; PinCount: 8; Code_JEDEC: MO-187-AA; ComponentLink1Description: LP2966 Datasheet; ComponentLink1URL: http://www.national.com/ds/LP/LP2966.pdf; ComponentLink2Description: LP2966 Web Page; ComponentLink2URL: http://www.national.com/pf/LP/LP2966.html; ComponentLink3Description: MUA08A Package Page; ComponentLink3URL: http://www.national.com/packaging/folders/mua08a.html
footprint MUA08A_N (TSOP, 8-Leads, Body 3x3mm, Pitch 0.65mm, IPC Medium Density)
footprint MUA08A_L (TSOP, 8-Leads, Body 3x3mm, Pitch 0.65mm, IPC High Density)
footprint MUA08A_M (TSOP, 8-Leads, Body 3x3mm, Pitch 0.65mm, IPC Low Density)
pins: 1 IN (power), 2 ~{SD1} (in), 3 ~{SD2} (in), 4 GND (power), 5 ~{ERR2} (oc), 6 ~{ERR1} (oc), 7 OUT2 (power), 8 OUT1 (power)

## LP2966IMM-3030
designator U?
Dual 150mA Ultra Low-Dropout Regulator, 8-pin Mini SOIC; PartNumber: LP2966IMM-3030; Manufacturer: National Semiconductor; PackageTopMarking: ZXTT*LACB; CompType: LDO IC; Published: 4-Dec-2008; DatasheetVersion: Mar-2005; PackageVersion: revF, Apr-2008; PackageReference: MUA08A; Publisher: Altium Limited; PackageDescription: MINI SOIC, .118 x .118 x .034in, 8 Lead, .0256in Pitch; Supplier 1: Farnell; Supplier Part Number 1: 9778438; RoHS: Y; PinCount: 8; Code_JEDEC: MO-187-AA; ComponentLink1Description: LP2966 Datasheet; ComponentLink1URL: http://www.national.com/ds/LP/LP2966.pdf; ComponentLink2Description: LP2966 Web Page; ComponentLink2URL: http://www.national.com/pf/LP/LP2966.html; ComponentLink3Description: MUA08A Package Page; ComponentLink3URL: http://www.national.com/packaging/folders/mua08a.html
footprint MUA08A_N (TSOP, 8-Leads, Body 3x3mm, Pitch 0.65mm, IPC Medium Density)
footprint MUA08A_L (TSOP, 8-Leads, Body 3x3mm, Pitch 0.65mm, IPC High Density)
footprint MUA08A_M (TSOP, 8-Leads, Body 3x3mm, Pitch 0.65mm, IPC Low Density)
pins: 1 IN (power), 2 ~{SD1} (in), 3 ~{SD2} (in), 4 GND (power), 5 ~{ERR2} (oc), 6 ~{ERR1} (oc), 7 OUT2 (power), 8 OUT1 (power)

## LP2966IMM-3333
designator U?
Dual 150mA Ultra Low-Dropout Regulator, 8-pin Mini SOIC; PartNumber: LP2966IMM-3333; Manufacturer: National Semiconductor; PackageTopMarking: ZXTT*LADB; CompType: LDO IC; Published: 4-Dec-2008; DatasheetVersion: Mar-2005; PackageVersion: revF, Apr-2008; PackageReference: MUA08A; Publisher: Altium Limited; PackageDescription: MINI SOIC, .118 x .118 x .034in, 8 Lead, .0256in Pitch; Supplier 1: Farnell; Supplier Part Number 1: 9778446; RoHS: Y; PinCount: 8; Code_JEDEC: MO-187-AA; ComponentLink1Description: LP2966 Datasheet; ComponentLink1URL: http://www.national.com/ds/LP/LP2966.pdf; ComponentLink2Description: LP2966 Web Page; ComponentLink2URL: http://www.national.com/pf/LP/LP2966.html; ComponentLink3Description: MUA08A Package Page; ComponentLink3URL: http://www.national.com/packaging/folders/mua08a.html
footprint MUA08A_N (TSOP, 8-Leads, Body 3x3mm, Pitch 0.65mm, IPC Medium Density)
footprint MUA08A_L (TSOP, 8-Leads, Body 3x3mm, Pitch 0.65mm, IPC High Density)
footprint MUA08A_M (TSOP, 8-Leads, Body 3x3mm, Pitch 0.65mm, IPC Low Density)
pins: 1 IN (power), 2 ~{SD1} (in), 3 ~{SD2} (in), 4 GND (power), 5 ~{ERR2} (oc), 6 ~{ERR1} (oc), 7 OUT2 (power), 8 OUT1 (power)

## LP2966IMM-3636
designator U?
Dual 150mA Ultra Low-Dropout Regulator, 8-pin Mini SOIC; PartNumber: LP2966IMM-3636; Manufacturer: National Semiconductor; PackageTopMarking: ZXTT*LAEB; CompType: LDO IC; Published: 4-Dec-2008; DatasheetVersion: Mar-2005; PackageVersion: revF, Apr-2008; PackageReference: MUA08A; Publisher: Altium Limited; PackageDescription: MINI SOIC, .118 x .118 x .034in, 8 Lead, .0256in Pitch; Supplier 1: Farnell; Supplier Part Number 1: 9778454; RoHS: Y; PinCount: 8; Code_JEDEC: MO-187-AA; ComponentLink1Description: LP2966 Datasheet; ComponentLink1URL: http://www.national.com/ds/LP/LP2966.pdf; ComponentLink2Description: LP2966 Web Page; ComponentLink2URL: http://www.national.com/pf/LP/LP2966.html; ComponentLink3Description: MUA08A Package Page; ComponentLink3URL: http://www.national.com/packaging/folders/mua08a.html
footprint MUA08A_N (TSOP, 8-Leads, Body 3x3mm, Pitch 0.65mm, IPC Medium Density)
footprint MUA08A_L (TSOP, 8-Leads, Body 3x3mm, Pitch 0.65mm, IPC High Density)
footprint MUA08A_M (TSOP, 8-Leads, Body 3x3mm, Pitch 0.65mm, IPC Low Density)
pins: 1 IN (power), 2 ~{SD1} (in), 3 ~{SD2} (in), 4 GND (power), 5 ~{ERR2} (oc), 6 ~{ERR1} (oc), 7 OUT2 (power), 8 OUT1 (power)

## LP2967IMM-2833
designator U?
Dual Micropower 150 mA Low-Dropout Regulator, 8-pin Mini SOIC; PartNumber: LP2967IMM-2833; Manufacturer: National Semiconductor; PackageTopMarking: ZXTT*LCCB; CompType: LDO IC; Published: 4-Dec-2008; DatasheetVersion: Jun-2005; PackageVersion: revF, Apr-2008; PackageReference: MUA08A; Publisher: Altium Limited; PackageDescription: MINI SOIC, .118 x .118 x .034in, 8 Lead, .0256in Pitch; Supplier 1: Farnell; Supplier Part Number 1: 1312851; RoHS: Y; PinCount: 8; Code_JEDEC: MO-187-AA; ComponentLink1Description: LP2967 Datasheet; ComponentLink1URL: http://www.national.com/ds/LP/LP2967.pdf; ComponentLink2Description: LP2967 Web Page; ComponentLink2URL: http://www.national.com/pf/LP/LP2967.html; ComponentLink3Description: MUA08A Package Page; ComponentLink3URL: http://www.national.com/packaging/folders/mua08a.html
footprint MUA08A_N (TSOP, 8-Leads, Body 3x3mm, Pitch 0.65mm, IPC Medium Density)
footprint MUA08A_L (TSOP, 8-Leads, Body 3x3mm, Pitch 0.65mm, IPC High Density)
footprint MUA08A_M (TSOP, 8-Leads, Body 3x3mm, Pitch 0.65mm, IPC Low Density)
pins: 1 IN (power), 2 OUT1 (power), 3 SD1 (in), 4 GND (power), 5 BYP, 6 SD2 (in), 7 OUT2 (power), 8 IN (power)

## LP2980AIM5-2.8
designator U?
Micropower 50 mA Ultra Low-Dropout Regulator, 5-pin SOT-23; PartNumber: LP2980AIM5-2.8; Manufacturer: National Semiconductor; PackageTopMarking: L13A*XTT; CompType: LDO IC; Published: 4-Dec-2008; DatasheetVersion: Sep-2006; PackageVersion: revD, Aug-2008; PackageReference: MF05A; Publisher: Altium Limited; PackageDescription: Molded SOT-23, .115 x .063 x .040 in Body, 5 Lead, .0375 in Pitch; RoHS: Y; PinCount: 5; ComponentLink1Description: LP2980 Datasheet; ComponentLink1URL: http://www.national.com/ds/LP/LP2980.pdf; ComponentLink2Description: LP2980 Web Page; ComponentLink2URL: http://www.national.com/pf/LP/LP2980.html; ComponentLink3Description: MF05A Package Page; ComponentLink3URL: http://www.national.com/packaging/folders/mf05a.html
footprint MF05A_N (SOT23, 5-Leads, Body 2.9x1.6mm, Pitch 0.95mm, Lead Span 2.8mm, IPC Medium Density)
footprint MF05A_L (SOT23, 5-Leads, Body 2.9x1.6mm, Pitch 0.95mm, Lead Span 2.8mm, IPC High Density)
footprint MF05A_M (SOT23, 5-Leads, Body 2.9x1.6mm, Pitch 0.95mm, Lead Span 2.8mm, IPC Low Density)
pins: 1 IN (power), 2 GND (power), 3 ON/~{OFF} (in), 4 NC, 5 OUT (power)

## LP2980AIM5-2.9
designator U?
Micropower 50 mA Ultra Low-Dropout Regulator, 5-pin SOT-23; PartNumber: LP2980AIM5-2.9; Manufacturer: National Semiconductor; PackageTopMarking: L12A*XTT; CompType: LDO IC; Published: 4-Dec-2008; DatasheetVersion: Sep-2006; PackageVersion: revD, Aug-2008; PackageReference: MF05A; Publisher: Altium Limited; PackageDescription: Molded SOT-23, .115 x .063 x .040 in Body, 5 Lead, .0375 in Pitch; RoHS: Y; PinCount: 5; ComponentLink1Description: LP2980 Datasheet; ComponentLink1URL: http://www.national.com/ds/LP/LP2980.pdf; ComponentLink2Description: LP2980 Web Page; ComponentLink2URL: http://www.national.com/pf/LP/LP2980.html; ComponentLink3Description: MF05A Package Page; ComponentLink3URL: http://www.national.com/packaging/folders/mf05a.html
footprint MF05A_N (SOT23, 5-Leads, Body 2.9x1.6mm, Pitch 0.95mm, Lead Span 2.8mm, IPC Medium Density)
footprint MF05A_L (SOT23, 5-Leads, Body 2.9x1.6mm, Pitch 0.95mm, Lead Span 2.8mm, IPC High Density)
footprint MF05A_M (SOT23, 5-Leads, Body 2.9x1.6mm, Pitch 0.95mm, Lead Span 2.8mm, IPC Low Density)
pins: 1 IN (power), 2 GND (power), 3 ON/~{OFF} (in), 4 NC, 5 OUT (power)

## LP2980AIM5-3.2
designator U?
Micropower 50 mA Ultra Low-Dropout Regulator, 5-pin SOT-23; PartNumber: LP2980AIM5-3.2; Manufacturer: National Semiconductor; PackageTopMarking: L31A*XTT; CompType: LDO IC; Published: 4-Dec-2008; DatasheetVersion: Sep-2006; PackageVersion: revD, Aug-2008; PackageReference: MF05A; Publisher: Altium Limited; PackageDescription: Molded SOT-23, .115 x .063 x .040 in Body, 5 Lead, .0375 in Pitch; RoHS: Y; PinCount: 5; ComponentLink1Description: LP2980 Datasheet; ComponentLink1URL: http://www.national.com/ds/LP/LP2980.pdf; ComponentLink2Description: LP2980 Web Page; ComponentLink2URL: http://www.national.com/pf/LP/LP2980.html; ComponentLink3Description: MF05A Package Page; ComponentLink3URL: http://www.national.com/packaging/folders/mf05a.html
footprint MF05A_N (SOT23, 5-Leads, Body 2.9x1.6mm, Pitch 0.95mm, Lead Span 2.8mm, IPC Medium Density)
footprint MF05A_L (SOT23, 5-Leads, Body 2.9x1.6mm, Pitch 0.95mm, Lead Span 2.8mm, IPC High Density)
footprint MF05A_M (SOT23, 5-Leads, Body 2.9x1.6mm, Pitch 0.95mm, Lead Span 2.8mm, IPC Low Density)
pins: 1 IN (power), 2 GND (power), 3 ON/~{OFF} (in), 4 NC, 5 OUT (power)

## LP2980AIM5-3.8
designator U?
Micropower 50 mA Ultra Low-Dropout Regulator, 5-pin SOT-23; PartNumber: LP2980AIM5-3.8; Manufacturer: National Semiconductor; PackageTopMarking: L21A*XTT; CompType: LDO IC; Published: 4-Dec-2008; DatasheetVersion: Sep-2006; PackageVersion: revD, Aug-2008; PackageReference: MF05A; Publisher: Altium Limited; PackageDescription: Molded SOT-23, .115 x .063 x .040 in Body, 5 Lead, .0375 in Pitch; RoHS: Y; PinCount: 5; ComponentLink1Description: LP2980 Datasheet; ComponentLink1URL: http://www.national.com/ds/LP/LP2980.pdf; ComponentLink2Description: LP2980 Web Page; ComponentLink2URL: http://www.national.com/pf/LP/LP2980.html; ComponentLink3Description: MF05A Package Page; ComponentLink3URL: http://www.national.com/packaging/folders/mf05a.html
footprint MF05A_N (SOT23, 5-Leads, Body 2.9x1.6mm, Pitch 0.95mm, Lead Span 2.8mm, IPC Medium Density)
footprint MF05A_L (SOT23, 5-Leads, Body 2.9x1.6mm, Pitch 0.95mm, Lead Span 2.8mm, IPC High Density)
footprint MF05A_M (SOT23, 5-Leads, Body 2.9x1.6mm, Pitch 0.95mm, Lead Span 2.8mm, IPC Low Density)
pins: 1 IN (power), 2 GND (power), 3 ON/~{OFF} (in), 4 NC, 5 OUT (power)

## LP2980IM5-2.8
designator U?
Micropower 50 mA Ultra Low-Dropout Regulator, 5-pin SOT-23; PartNumber: LP2980IM5-2.8; Manufacturer: National Semiconductor; PackageTopMarking: L13B*XTT; CompType: LDO IC; Published: 4-Dec-2008; DatasheetVersion: Sep-2006; PackageVersion: revD, Aug-2008; PackageReference: MF05A; Publisher: Altium Limited; PackageDescription: Molded SOT-23, .115 x .063 x .040 in Body, 5 Lead, .0375 in Pitch; RoHS: Y; PinCount: 5; ComponentLink1Description: LP2980 Datasheet; ComponentLink1URL: http://www.national.com/ds/LP/LP2980.pdf; ComponentLink2Description: LP2980 Web Page; ComponentLink2URL: http://www.national.com/pf/LP/LP2980.html; ComponentLink3Description: MF05A Package Page; ComponentLink3URL: http://www.national.com/packaging/folders/mf05a.html
footprint MF05A_N (SOT23, 5-Leads, Body 2.9x1.6mm, Pitch 0.95mm, Lead Span 2.8mm, IPC Medium Density)
footprint MF05A_L (SOT23, 5-Leads, Body 2.9x1.6mm, Pitch 0.95mm, Lead Span 2.8mm, IPC High Density)
footprint MF05A_M (SOT23, 5-Leads, Body 2.9x1.6mm, Pitch 0.95mm, Lead Span 2.8mm, IPC Low Density)
pins: 1 IN (power), 2 GND (power), 3 ON/~{OFF} (in), 4 NC, 5 OUT (power)

## LP2980IM5-2.9
designator U?
Micropower 50 mA Ultra Low-Dropout Regulator, 5-pin SOT-23; PartNumber: LP2980IM5-2.9; Manufacturer: National Semiconductor; PackageTopMarking: L12B*XTT; CompType: LDO IC; Published: 4-Dec-2008; DatasheetVersion: Sep-2006; PackageVersion: revD, Aug-2008; PackageReference: MF05A; Publisher: Altium Limited; PackageDescription: Molded SOT-23, .115 x .063 x .040 in Body, 5 Lead, .0375 in Pitch; RoHS: Y; PinCount: 5; ComponentLink1Description: LP2980 Datasheet; ComponentLink1URL: http://www.national.com/ds/LP/LP2980.pdf; ComponentLink2Description: LP2980 Web Page; ComponentLink2URL: http://www.national.com/pf/LP/LP2980.html; ComponentLink3Description: MF05A Package Page; ComponentLink3URL: http://www.national.com/packaging/folders/mf05a.html
footprint MF05A_N (SOT23, 5-Leads, Body 2.9x1.6mm, Pitch 0.95mm, Lead Span 2.8mm, IPC Medium Density)
footprint MF05A_L (SOT23, 5-Leads, Body 2.9x1.6mm, Pitch 0.95mm, Lead Span 2.8mm, IPC High Density)
footprint MF05A_M (SOT23, 5-Leads, Body 2.9x1.6mm, Pitch 0.95mm, Lead Span 2.8mm, IPC Low Density)
pins: 1 IN (power), 2 GND (power), 3 ON/~{OFF} (in), 4 NC, 5 OUT (power)